# Altium schematic symbol library SCH - POWER - LINEAR VREG - TI LP3981ILD-2.5.SchLib: 1 symbol
Pins are listed as number, name and electrical type; pins without a type are passive.

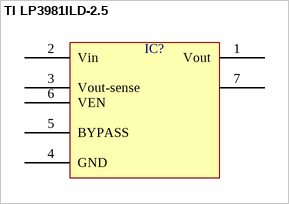
[diagram p0: symbol TI LP3981ILD-2.5]

## TI LP3981ILD-2.5
designator IC?  (value not drawn)
pins: 1 Vout, 2 Vin, 3 Vout-sense, 4 GND, 5 BYPASS, 6 VEN, 7